# Altium footprint library TO-92-2.PcbLib: 1 footprints
Each footprint in its own frame and in the unit in brackets; x right, y up, seen from the top. Pads: shape width x height; smd on the part's side, far side on the other; paste and mask are expansions set on the pad; w line width, h text height; cw(c..) or ccw(c..) is an arc to the next point about the centre after c.
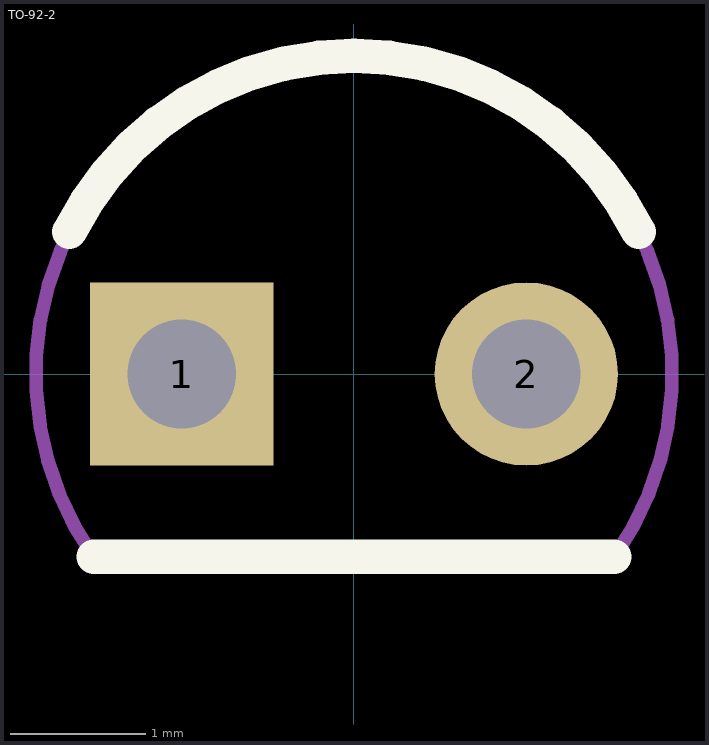
[diagram p0: the footprint, top view; thin cyan lines are the x and y axes]

## TO-92-2 [mm]
pads (2):
  rect 1.35x1.35 hole 0.8: 1(-1.27,0)
  round 1.35 hole 0.8: 2(1.27,0)
Top Overlay:
  lines w0.254: -2.097,1.049 cw(c0,0) 2.097,1.049 ; -1.919,-1.348 1.919,-1.348
Mechanical 13:
  lines w0.1: 1.919,-1.348 -1.919,-1.348 cw(c0,0) 1.92,-1.347
3D body: height 6.6, standoff 1.27, extent -2.356,-1.351 2.356,2.356
3D body: height 1.27, standoff -11.43, extent -1.505,-0.192 -1.035,0.192
3D body: height 1.27, standoff -11.43, extent 1.035,-0.192 1.505,0.192